# Altium schematic symbol library T491C106K035AT.SchLib: 1 symbol
Pins are listed as number, name and electrical type; pins without a type are passive.

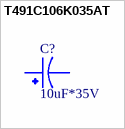
[diagram p0: symbol T491C106K035AT]

## T491C106K035AT
designator C?, comment 10uF*35V
Capacitors Tantalum PCB 10uF SMD Tol 10% 35 VDC Case Size 6032 T491 Series | KEMET T491C106K035AT; MP: T491C106K020AT; SnapEDA_Link: https://www.snapeda.com/parts/T491C106K020AT/KEMET/view-part/?ref=snap; Package: SMD-2 KEMET; Value: *; MF: KEMET; Check_prices: https://www.snapeda.com/parts/T491C106K020AT/KEMET/view-part/?ref=eda
footprint CAPMP6032X280N
pins: 1, 2